# Altium footprint library R413D1100JMT0K.PcbLib: 1 footprints
Each footprint in its own frame and in the unit in brackets; x right, y up, seen from the top. Pads: shape width x height; smd on the part's side, far side on the other; paste and mask are expansions set on the pad; w line width, h text height; cw(c..) or ccw(c..) is an arc to the next point about the centre after c.
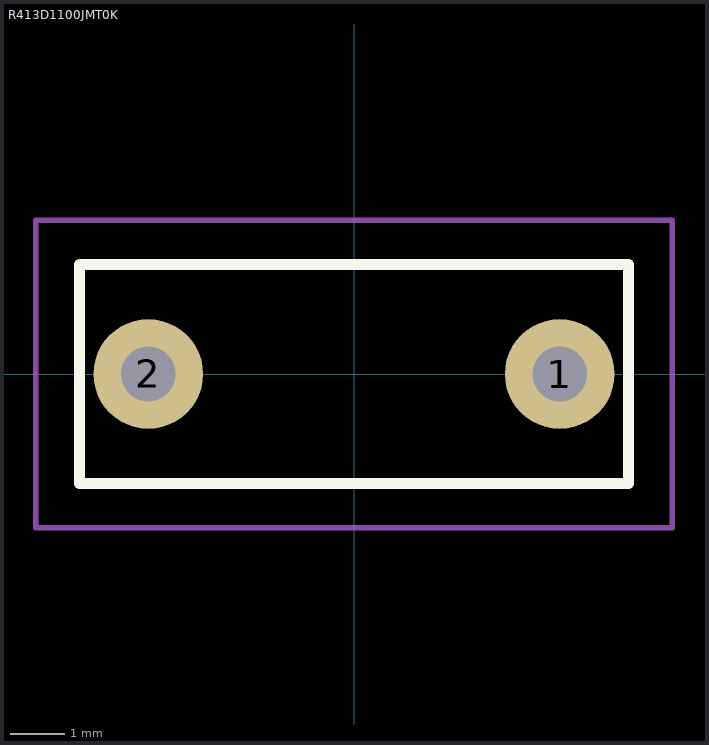
[diagram p0: the footprint, top view; thin cyan lines are the x and y axes]

## R413D1100JMT0K [mm]
pads (2):
  round 2 hole 1: 1(3.75,0) 2(-3.75,0)
Top Overlay:
  lines w0.2: -5,-2 -5,2 5,2 5,-2 -5,-2
Top Courtyard:
  lines w0.1: -5.8,-2 -5.8,-2.8 ; -5,-2.8 -5.8,-2.8 ; 5,2.8 5.8,2.8 ; 5.8,2 5.8,2.8 ; -5.8,-2.8 -5.8,2.8 5.8,2.8 ; -5.8,-2.8 5.8,-2.8 5.8,2.8
3D body: height 9, standoff 0, extent -5,-2 5,2